# Altium footprint library A_HDJ_Library.PcbLib: 42 footprints (part 3 of 3)
Each footprint in its own frame and in the unit in brackets; x right, y up, seen from the top. Pads: shape width x height; smd on the part's side, far side on the other; paste and mask are expansions set on the pad; w line width, h text height; cw(c..) or ccw(c..) is an arc to the next point about the centre after c.
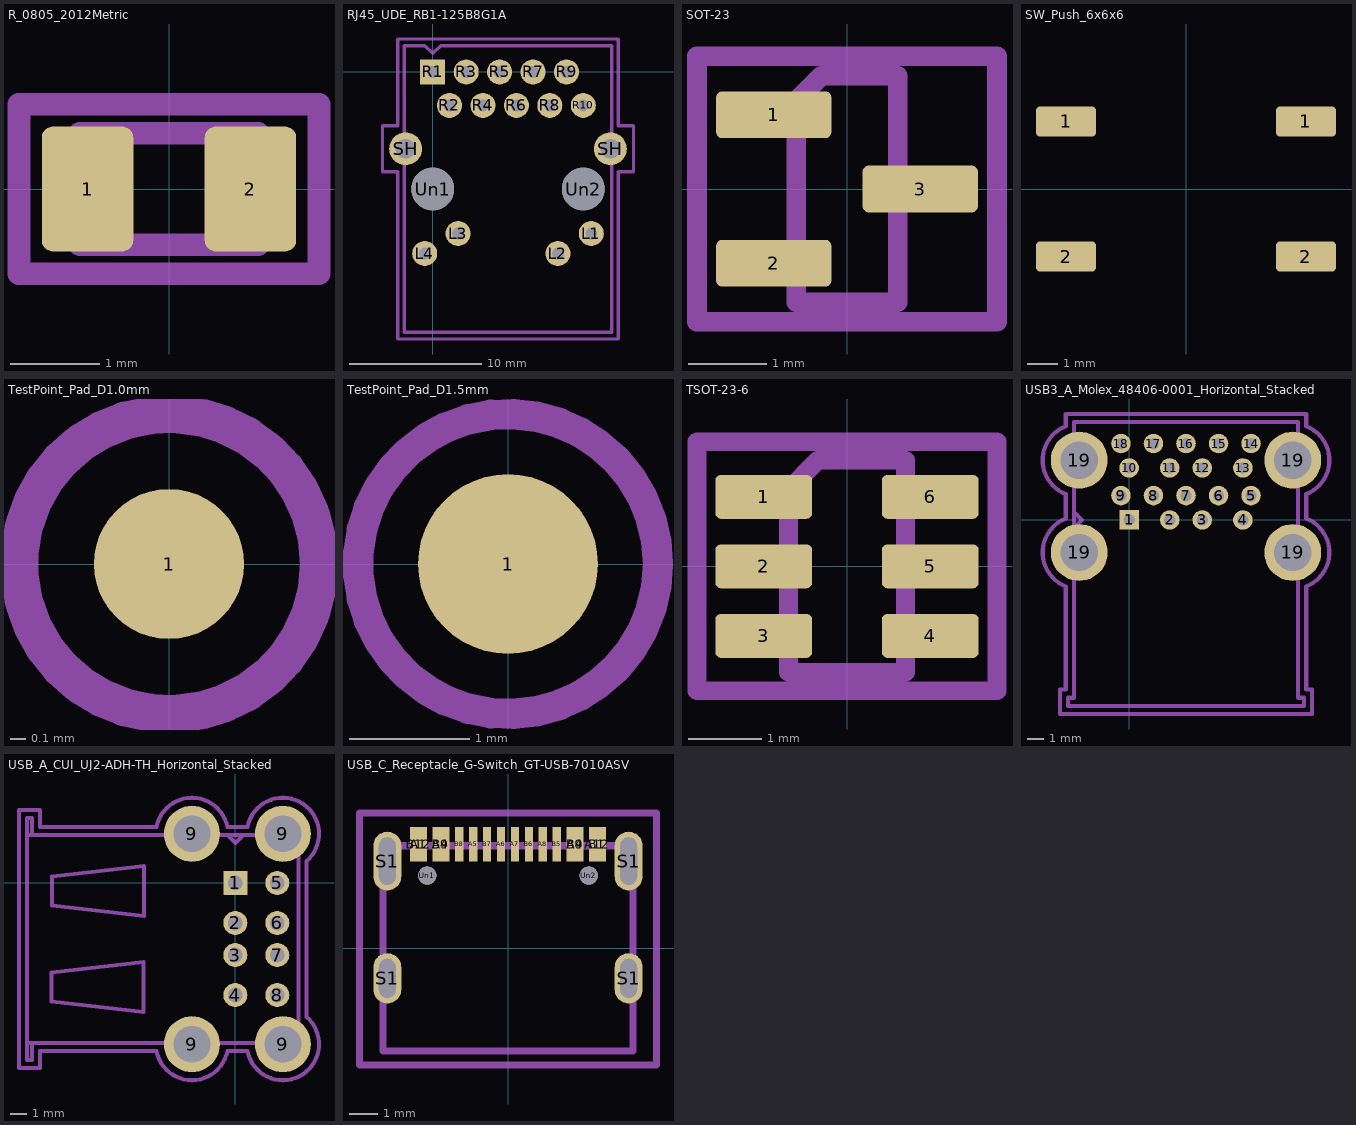
[diagram p2: the footprints below, top view; thin cyan lines are the x and y axes]

## R_0805_2012Metric [mm]
pads (2):
  rrect24% 1.025x1.4 smd: 1(-0.913,0) 2(0.913,0)
F.SilkS:
  lines w0.254: -0.227,-0.735 0.227,-0.735 ; -0.227,0.735 0.227,0.735
F.Fab:
  lines w0.254: -1,-0.625 -1,0.625 1,0.625 1,-0.625 -1,-0.625
  text "'.Designator'" at -0.72,-0.2 h0.5
F.CrtYd:
  lines w0.254: -1.68,-0.95 -1.68,0.95 1.68,0.95 1.68,-0.95 -1.68,-0.95

## RJ45_UDE_RB1-125B8G1A [mm]
pads (18):
  round 1.9 hole 0.9: L1(12.04,-12.27) L2(9.5,-13.79) L3(1.93,-12.27) L4(-0.61,-13.79) R2(1.27,-2.54) R3(2.54,0) R4(3.81,-2.54) R5(5.08,0) R6(6.35,-2.54) R7(7.62,0) R8(8.89,-2.54) R9(10.16,0) R10(11.43,-2.54)
  rect 1.9x1.9 hole 0.9: R1(0,0)
  round 2.5 hole 1.5: SH(-2.06,-5.84) SH(13.49,-5.84)
  round 3.25 hole 3.25: Un1(0,-8.89) Un2(11.43,-8.89)
Dwgs.User:
  lines w0.254: -2.16,-18.78 0.84,-15.78 ; -2.16,-17.78 -0.16,-15.78 ; -2.16,-16.78 -1.16,-15.78 ; -1.16,-19.78 2.84,-15.78 ; -0.6,-8.09 0.6,-6.89 ; -0.6,-7.09 0.6,-5.89 ; -0.6,-6.09 0.6,-4.89 ; -0.6,-5.09 0.6,-3.89 ; -0.6,-4.09 -0.2,-3.69 ; -0.16,-19.78 3.84,-15.78 ; 0.6,-7.89 -0.6,-9.09 ; 0.84,-19.77 6.33,-14.28 ; 1.84,-19.78 7.22,-14.4 ; 1.84,-15.78 -2.16,-19.78 ; 2.84,-19.77 7.22,-15.39 ; 3.84,-19.78 7.84,-15.78 ; 4.21,-15.41 5.34,-14.29 ; 4.84,-19.78 8.84,-15.78 ; 5.84,-19.78 9.84,-15.78 ; 6.84,-19.78 10.84,-15.78 ; 7.84,-19.78 11.84,-15.78 ; 8.84,-19.78 12.84,-15.78 ; 9.84,-19.78 13.59,-16.03 ; 10.83,-8.09 12.03,-6.89 ; 10.83,-7.09 12.03,-5.89 ; 10.83,-6.09 12.03,-4.89 ; 10.83,-5.09 12.03,-3.89 ; 10.83,-4.09 11.23,-3.69 ; 10.84,-19.77 13.59,-17.02 ; 11.84,-19.77 13.59,-18.02 ; 12.03,-7.89 10.83,-9.09 ; 12.84,-19.77 13.59,-19.02 ; -2.16,-19.78 -2.16,-15.78 4.21,-15.78 4.21,-14.28 7.22,-14.28 7.22,-15.78 13.59,-15.78 13.59,-19.78 -2.16,-19.78 ; -0.6,-9.09 -0.6,-3.69 0.6,-3.69 0.6,-9.09 -0.6,-9.09 ; 10.83,-9.09 10.83,-3.69 12.03,-3.69 12.03,-9.09 10.83,-9.09
F.SilkS:
  lines w0.254: -2.36,-7.58 -2.36,-19.98 13.79,-19.98 13.79,-7.58 ; -2.36,-4.08 -2.36,2.2 13.79,2.2 13.79,-4.08
F.Fab:
  lines w0.254: -2.16,-19.78 -2.16,2 -0.6,2 0,1.4 0.6,2 13.59,2 13.59,-19.78 -2.16,-19.78
  text "'.Designator'" at 4.56,-6.399 h1
F.CrtYd:
  lines w0.254: -3.81,-7.59 -3.81,-4.09 -2.66,-4.09 -2.66,2.5 14.09,2.5 14.09,-4.09 15.24,-4.09 15.24,-7.59 14.09,-7.59 14.09,-20.28 -2.66,-20.28 -2.66,-7.59 -3.81,-7.59

## SOT-23 [mm]
pads (3):
  rrect25% 1.475x0.6 smd: 1(-0.937,0.95) 2(-0.937,-0.95) 3(0.937,0)
F.SilkS:
  lines w0.254: -1.675,1.56 0,1.56 0.65,1.56 ; -0.65,-1.56 0,-1.56 0.65,-1.56
F.Fab:
  lines w0.254: -0.65,-1.45 -0.65,1.125 -0.325,1.45 0.65,1.45 0.65,-1.45 -0.65,-1.45
  text "'.Designator'" at -0.461,-0.128 h0.32
F.CrtYd:
  lines w0.254: -1.92,-1.7 -1.92,1.7 1.92,1.7 1.92,-1.7 -1.92,-1.7

## SW_Push_6x6x6 [mm]
pads (4):
  rrect25% 2x1 smd: 1(-4,2.25) 1(4,2.25) 2(-4,-2.25) 2(4,-2.25)
F.SilkS:
  circle w0.254: c-2,2 r0.5
  circle w0.254: c-2,-2 r0.5
  circle w0.254: c0,0 r1.75
  circle w0.254: c2,2 r0.5
  circle w0.254: c2,-2 r0.5
  lines w0.254: -3,-3 -3,3 3,3 3,-3 -3,-3
F.Fab:
  text "'.Designator'" at -1.44,-2.899 h1

## TestPoint_Pad_D1.0mm [mm]
pads (1):
  round 1 smd: 1(0,0)
F.SilkS:
  circle w0.254: c0,0 r0.7
F.Fab:
  text "'.Designator'" at -1.44,1.051 h1
F.CrtYd:
  circle w0.254: c0,0 r1

## TestPoint_Pad_D1.5mm [mm]
pads (1):
  round 1.5 smd: 1(0,0)
F.SilkS:
  circle w0.254: c0,0 r0.95
F.Fab:
  text "'.Designator'" at -1.44,1.251 h1
F.CrtYd:
  circle w0.254: c0,0 r1.25

## TSOT-23-6 [mm]
pads (6):
  rrect25% 1.325x0.6 smd: 1(-1.138,0.95) 2(-1.138,0) 3(-1.138,-0.95) 4(1.138,-0.95) 5(1.138,0) 6(1.138,0.95)
F.SilkS:
  circle w0.254: c-1.12,1.56 r0.2
  region: -1.042,1.748 -0.976,1.704 -0.932,1.638 -0.916,1.56 -0.932,1.482 -0.976,1.416 -1.042,1.372 -1.12,1.356 -1.198,1.372 -1.264,1.416 -1.308,1.482 -1.324,1.56 -1.308,1.638 -1.264,1.704 -1.198,1.748 -1.12,1.764
  lines w0.254: -0.8,-1.56 0,-1.56 0.8,-1.56 ; -0.5,1.56 0,1.56 0.8,1.56
F.Fab:
  lines w0.254: -0.8,-1.45 -0.8,1.05 -0.4,1.45 0.8,1.45 0.8,-1.45 -0.8,-1.45
  text "'.Designator'" at -0.575,-0.159 h0.4
F.CrtYd:
  lines w0.254: -2.05,-1.7 -2.05,1.7 2.05,1.7 2.05,-1.7 -2.05,-1.7

## USB3_A_Molex_48406-0001_Horizontal_Stacked [mm]
pads (22):
  rect 1.2x1.2 hole 0.7: 1(0,0)
  round 1.2 hole 0.7: 2(2.5,0) 3(4.5,0) 4(7,0) 5(7.5,1.5) 6(5.5,1.5) 7(3.5,1.5) 8(1.5,1.5) 9(-0.5,1.5) 10(0,3.2) 11(2.5,3.2) 12(4.5,3.2) 13(7,3.2) 14(7.5,4.7) 15(5.5,4.7) 16(3.5,4.7) 17(1.5,4.7) 18(-0.5,4.7)
  round 3.5 hole 2.3: 19(-3.07,-2) 19(-3.07,3.68) 19(10.07,-2) 19(10.07,3.68)
F.SilkS:
  lines w0.254: -3.46,-6.8 -3.46,-4.1 ; -3.46,0.1 -3.46,1.58 ; -3.46,5.78 -3.46,6.08 10.46,6.08 10.46,5.78 ; 10.46,-6.8 10.46,-4.1 ; 10.46,0.1 10.46,1.58 ; -4.5,-0.5 -4.5,0.5 -4,0 -4.5,-0.5
F.Fab:
  lines w0.254: -3.4,-0.5 -2.9,0 -3.4,0.5 ; -3.75,-11.44 -3.75,-10.94 -3.4,-10.94 -3.4,6.02 10.4,6.02 10.4,-10.94 10.75,-10.94 10.75,-11.44 -3.75,-11.44
  text "'.Designator'" at 2.06,-5.399 h1
F.CrtYd:
  lines w0.254: -4.25,-11.94 -4.25,-10.44 -3.9,-10.44 -3.9,-4.09 cw(c-3.072,-2) -3.9,0.09 -3.9,1.59 cw(c-3.072,3.68) -3.9,5.77 -3.9,6.52 10.9,6.52 10.9,5.77 cw(c10.072,3.68) 10.9,1.59 10.9,0.09 cw(c10.072,-2) 10.9,-4.09 10.9,-10.44 11.25,-10.44 11.25,-11.94 10.9,-11.94 -3.9,-11.94 -4.25,-11.94

## USB_A_CUI_UJ2-ADH-TH_Horizontal_Stacked [mm]
pads (12):
  rect 1.5x1.5 hole 0.92: 1(0,0)
  round 1.5 hole 0.92: 2(0,-2.5) 3(0,-4.5) 4(0,-7) 5(2.62,0) 6(2.62,-2.5) 7(2.62,-4.5) 8(2.62,-7)
  round 3.5 hole 2.3: 9(-2.71,-10.07) 9(-2.71,3.07) 9(2.97,-10.07) 9(2.97,3.07)
F.SilkS:
  lines w0.254: -11.58,-10.13 -4.73,-10.13 ; -11.58,3.13 -4.73,3.13 ; 4.07,-8.4 4.07,1.4 ; -0.5,3.75 0,3.25 0.5,3.75 -0.5,3.75
F.Fab:
  lines w0.254: -0.5,3 0,2.5 0.5,3 ; -13.01,-10 -13.01,3 ; -13.01,-10 3.94,-10 3.94,3 -13.01,3 ; -13.01,-10 -13.01,-11.05 -12.71,-11.05 -12.71,-10 -13.01,-10 ; -13.01,3 -13.01,4.05 -12.71,4.05 -12.71,3 -13.01,3 ; -11.49,-7.405 -11.49,-5.595 -5.74,-4.935 -5.74,-8.065 -11.49,-7.405 ; -11.46,-1.405 -11.46,0.405 -5.71,1.065 -5.71,-2.065 -11.46,-1.405
  text "'.Designator'" at -5.975,-3.899 h1
F.CrtYd:
  circle w0.254: c2.97,-10.07 r0
  lines w0.254: -13.51,-11.55 -13.51,4.55 -12.21,4.55 -12.21,3.5 -4.92,3.5 cw(c-2.71,3.07) -0.5,3.5 0.76,3.5 cw(c2.972,3.07) 4.44,1.36 4.44,-8.36 cw(c2.972,-10.07) 0.76,-10.5 -0.5,-10.5 cw(c-2.71,-10.07) -4.92,-10.5 -12.21,-10.5 -12.21,-11.55 -13.51,-11.55

## USB_C_Receptacle_G-Switch_GT-USB-7010ASV [mm]
pads (22):
  rect 0.6x1.24 smd: A1(-3.2,3.725) A4(-2.4,3.725) A9(2.4,3.725) A12(3.2,3.725) B1(3.2,3.725) B4(2.4,3.725) B9(-2.4,3.725) B12(-3.2,3.725)
  rect 0.3x1.24 smd: A5(-1.25,3.725) A6(-0.25,3.725) A7(0.25,3.725) A8(1.25,3.725) B5(1.75,3.725) B6(0.75,3.725) B7(-0.75,3.725) B8(-1.75,3.725)
  rrect100% 1x1.8 hole 1.4 slot 0.6 at 0 deg: S1(-4.32,-1.075) S1(4.32,-1.075)
  rrect100% 1x2.1 hole 1.7 slot 0.6 at 0 deg: S1(-4.32,3.125) S1(4.32,3.125)
  round 0.65 hole 0.65: Un1(-2.89,2.605) Un2(2.89,2.605)
F.SilkS:
  lines w0.254: -4.58,-2.08 -4.58,-3.785 4.58,-3.785 4.58,-2.08 ; -4.58,-0.07 -4.58,1.85 ; 4.58,-0.07 4.58,1.85
F.Fab:
  lines w0.254: -4.47,-3.675 -4.47,3.675 4.47,3.675 4.47,-3.675 -4.47,-3.675
  text "'.Designator'" at -1.44,-0.399 h1
F.CrtYd:
  lines w0.254: -5.32,-4.18 -5.32,4.85 5.32,4.85 5.32,-4.18 -5.32,-4.18